# EAGLE library part FH12-10S-1SH (library eric-custom)
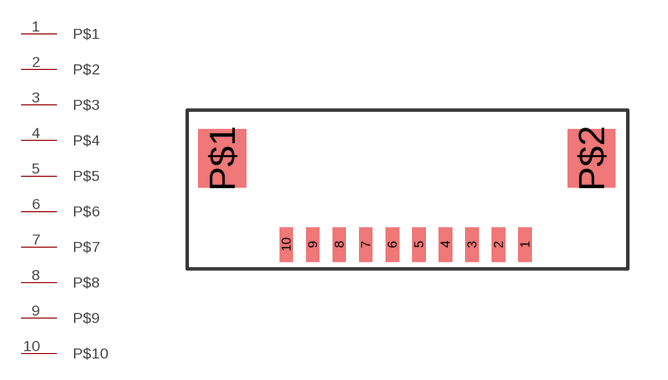
[diagram p21: symbol with the pads of FH12-10S-1SH; footprint FH12-10S-1SH]

Designator prefix -

## FH12-10S-1SH  [FH12-10S-1SH]
1  P$1
2  P$2
3  P$3
4  P$4
5  P$5
6  P$6
7  P$7
8  P$8
9  P$9
10  P$10

## Footprint FH12-10S-1SH (pad centres in mm)
smd 0.5 x 1.3: 1 4.73,-1.8; 2 3.73,-1.8; 3 2.73,-1.8; 4 1.73,-1.8; 5 0.73,-1.8; 6 -0.27,-1.8; 7 -1.27,-1.8; 8 -2.27,-1.8; 9 -3.27,-1.8; 10 -4.27,-1.8
smd 1.8 x 2.2: P$1 -6.68,1.45; P$2 7.24,1.45